# Altium footprint library WIFISocket.PcbLib: 16 footprints
Each footprint in its own frame and in the unit in brackets; x right, y up, seen from the top. Pads: shape width x height; smd on the part's side, far side on the other; paste and mask are expansions set on the pad; w line width, h text height; cw(c..) or ccw(c..) is an arc to the next point about the centre after c.
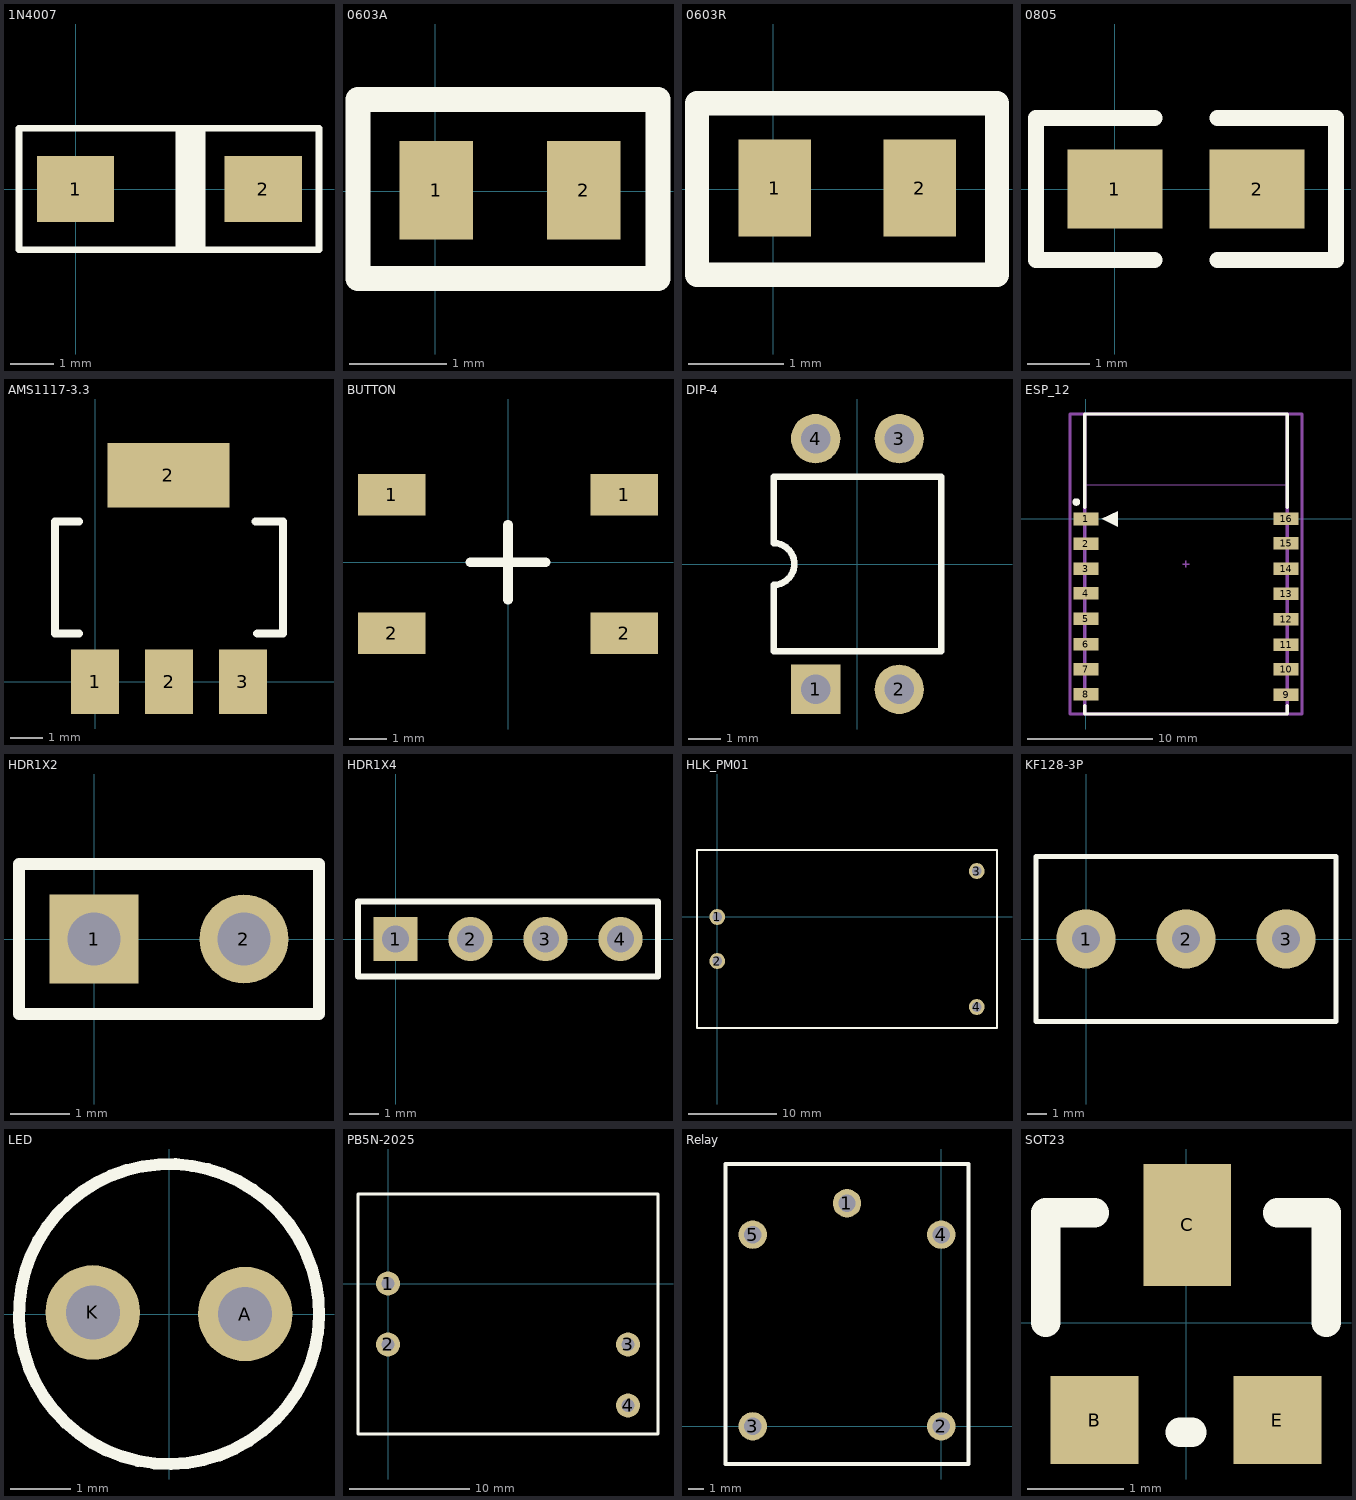
[diagram p0: the footprints below, top view; thin cyan lines are the x and y axes]

## 1N4007 [mil]
pads (2):
  rect 70x60 smd: 1(0,0) 2(170,0)
Top Overlay:
  rectangle: 90.55,-55 117.55,55
  lines w6: -51.18,-55 -51.18,55 220.47,55 220.47,-55 -51.18,-55

## 0603A [mil]
pads (2):
  rect 30x40 smd: 1(0.31,0.44) 2(60.31,0.44)
Top Overlay:
  lines w10: -31.5,-35.43 90.55,-35.43 90.55,37.4 -31.5,37.4 -31.5,-35.43

## 0603R [mil]
pads (2):
  rect 30x40 smd: 1(0.66,0.41) 2(60.66,0.41)
Top Overlay:
  lines w10: -31.5,-35.43 92.52,-35.43 92.52,35.43 -31.5,35.43 -31.5,-35.43

## 0805 [mil]
pads (2):
  rect 60x50 smd: 1(0,0) 2(90,0)
Top Overlay:
  lines w10: 25,-45 -50,-45 -50,45 25,45 ; 65,-45 140,-45 140,45 65,45

## AMS1117-3.3 [mil]
pads (4):
  rect 59x79 smd: 1(0,0) 2(90.55,0) 3(181.1,0)
  rect 150x79 smd: 2(89.88,253.54)
Top Overlay:
  lines w10: -19.68,59.06 -49.45,59.06 -49.45,196.85 -19.68,196.85 ; 196.85,196.85 230.55,196.85 230.55,59.06 198.82,59.06

## BUTTON [mm] "[CHECK][9/6][PIN]"
pads (4):
  rect 1.8x1.1 smd: 1(-3.1,1.8) 1(3.1,1.8) 2(-3.1,-1.9) 2(3.1,-1.9)
Top Overlay:
  lines w0.254: -1,0 1,0 ; 0,-1 0,1

## DIP-4 [mm] "DIP; 4 Leads; Row Spacing 7.62 mm; Pitch 2.54 mm"
height 5.6
pads (4):
  rect 1.5x1.5 hole 0.9: 1(-1.27,-3.81)
  round 1.5 hole 0.9: 2(1.27,-3.81) 3(1.27,3.81) 4(-1.27,3.81)
Top Overlay:
  lines w0.2: -2.55,-2.65 -2.55,-0.635 ccw(c-2.55,0) -2.55,0.635 -2.55,2.65 2.55,2.65 2.55,-2.65 -2.55,-2.65

## ESP_12 [mm]
pads (16):
  rect 2x1 smd: 1(0,0) 2(0,-1.97) 3(0,-3.97) 4(0,-5.94) 5(0,-7.98) 6(0,-9.99) 7(0,-11.98) 8(0,-13.99) 9(16,-14.03) 10(16,-11.99) 11(16,-10.03) 12(16,-8.01) 13(16,-5.95) 14(16,-3.97) 15(16,-1.95) 16(16,0.03)
Top Overlay:
  circle w0.3: c-0.762,1.356 r0.15
  region: 1.27,0 2.54,-0.635 2.54,0.635
  lines w0.254: -0.084,-14.916 -0.084,-15.568 16.084,-15.568 16.084,-14.916 ; -0.084,0.916 -0.084,8.371 16.084,8.371 16.084,0.916
Mechanical 13:
  lines w0.051: -0.127,2.727 16.129,2.727 16.129,8.382 -0.127,8.382 -0.127,2.727
  lines w0.254: -0.084,-15.568 -0.084,8.371 16.084,8.371 16.084,-15.568 -0.084,-15.568
  text "ANTENNA AREA" at 0.127,7.874 h0.25
  text "CUTOUT POLYGON" at 0.127,7.366 h0.25
Mechanical 15:
  lines w0.1: 7.746,-3.598 8.254,-3.598 ; 8,-3.852 8,-3.344
  lines w0.254: -1.27,-15.568 17.272,-15.568 17.272,8.371 -1.27,8.371 -1.27,-15.568

## HDR1X2 [mm] "Connector; Header; 2 Position"
pads (2):
  rect 1.5x1.5 hole 0.9: 1(0,0)
  round 1.5 hole 0.9: 2(2.54,0)
Top Overlay:
  lines w0.2: -1.27,-1.27 -1.27,1.27 3.81,1.27 3.81,-1.27 -1.27,-1.27

## HDR1X4 [mm] "Connector; Header; 4 Position"
pads (4):
  rect 1.5x1.5 hole 0.9: 1(0,0)
  round 1.5 hole 0.9: 2(2.54,0) 3(5.08,0) 4(7.62,0)
Top Overlay:
  lines w0.2: -1.27,-1.27 8.89,-1.27 8.89,1.27 -1.27,1.27 -1.27,-1.27

## HLK_PM01 [mm] "[CHECK][9/5][SIZE][PIN]"
height 15
pads (4):
  round 1.8 hole 1.1: 1(0,0) 2(0,-5) 3(29.4,5.2) 4(29.4,-10.2)
Top Overlay:
  lines w0.254: 31.7,6.6 31.7,6.4 ; 31.7,6.4 31.7,-12.6 -2.3,-12.6 -2.3,6.6 -2.3,7.6 31.7,7.6 31.7,6.4

## KF128-3P [mm] "5.08mm"
pads (3):
  round 3 hole 1.4: 1(0,0) 2(5.08,0) 3(10.16,0)
Top Overlay:
  lines w0.254: -2.54,-4.2 -2.54,0 -2.54,2.54 -2.54,4.2 12.7,4.2 12.7,-4.2 -2.54,-4.2

## LED [mil]
pads (2):
  round 62 hole 35.43: A(50,0) K(-50,1)
Top Overlay:
  lines w7.87: -98.35,-3.93 ccw(c0,0) -98.35,-3.93

## PB5N-2025 [mm] "[CHECK][9/5][SIZE][PIN]"
height 15
pads (4):
  round 2 hole 1.1: 1(0,0) 2(0,-5.08) 3(20,-5.08) 4(20,-10.16)
Top Overlay:
  lines w0.254: -2.5,-12.54 22.5,-12.54 22.5,7.46 -2.5,7.46 -2.5,6.46 -2.5,-12.54

## Relay [mm]
height 15.3
pads (5):
  round 1.8 hole 1.1: 1(-6,14.2) 2(0,0) 3(-12,0) 4(0,12.2) 5(-12,12.2)
Top Overlay:
  lines w0.254: -13.75,-2.4 1.75,-2.4 1.75,3.925 1.75,10.375 1.75,16.7 -13.75,16.7 -13.75,-2.4

## SOT23 [mil]
pads (3):
  rect 36x36 smd: B(-37.5,-40) E(37.5,-40)
  rect 36x50 smd: C(0.5,40)
Top Overlay:
  lines w12: -57.5,0 -57.5,45 -37.5,45 ; -2.5,-45 2.5,-45 ; 37.5,45 57.5,45 57.5,0